# Altium footprint library SKRHABE010.PcbLib: 1 footprints
Each footprint in its own frame and in the unit in brackets; x right, y up, seen from the top. Pads: shape width x height; smd on the part's side, far side on the other; paste and mask are expansions set on the pad; w line width, h text height; cw(c..) or ccw(c..) is an arc to the next point about the centre after c.
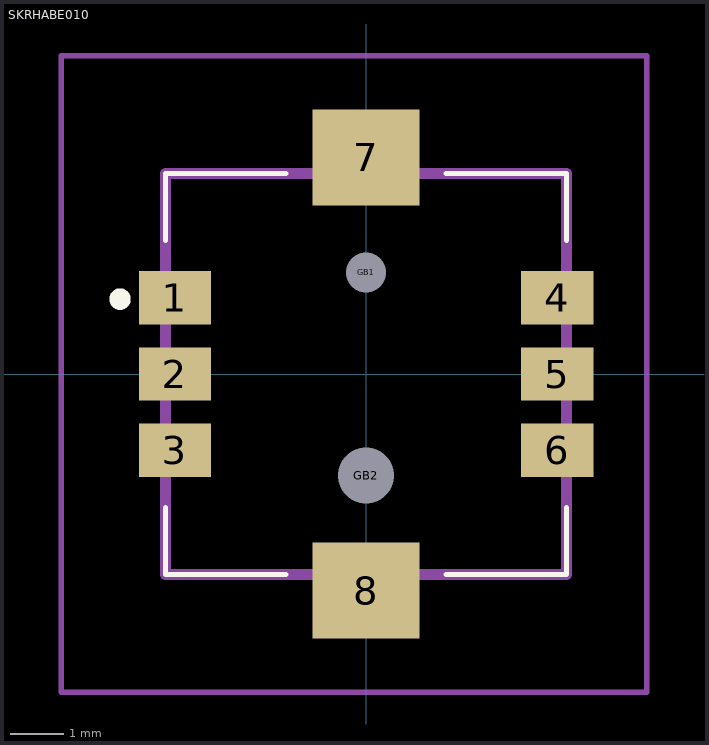
[diagram p0: the footprint, top view; thin cyan lines are the x and y axes]

## SKRHABE010 [mm]
pads (10):
  rect 1.35x1 smd: 1(-3.575,1.425) 2(-3.575,0) 3(-3.575,-1.425) 4(3.575,1.425) 5(3.575,0) 6(3.575,-1.425)
  rect 2x1.8 smd: 7(0,4.05) 8(0,-4.05)
  round 0.375 hole 0.75 unplated: GB1(0,1.9)
  round 0.525 hole 1.05 unplated: GB2(0,-1.9)
Top Overlay:
  lines w0.1: -3.75,-2.5 -3.75,-3.75 -1.5,-3.75 ; -3.75,2.5 -3.75,3.75 -1.5,3.75 ; 1.5,-3.75 3.75,-3.75 3.75,-2.5 ; 1.5,3.75 3.75,3.75 3.75,2.5
  lines w0.2: -4.6,1.3 ccw(c-4.6,1.4) -4.6,1.5 ; -4.6,1.3 -4.6,1.3 ; -4.6,1.3 cw(c-4.6,1.4) -4.6,1.5 ; -4.6,1.5 -4.6,1.5
Mechanical 15:
  lines w0.2: -3.75,-3.75 3.75,-3.75 3.75,3.75 -3.75,3.75 -3.75,-3.75
Mechanical 20:
  lines w0.1: -5.7,-5.95 5.25,-5.95 5.25,5.95 -5.7,5.95 -5.7,-5.95